# Altium schematic symbol library SCH - POWER - LINEAR VREG - TI TPS77327_DGK_8.SchLib: 1 symbol
Pins are listed as number, name and electrical type; pins without a type are passive.

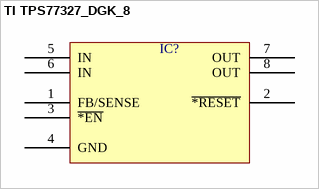
[diagram p0: symbol TI TPS77327_DGK_8]

## TI TPS77327_DGK_8
designator IC?  (value not drawn)
pins: 1 FB/SENSE, 2 ~{*RESET}, 3 ~{*EN}, 4 GND, 5 IN, 6 IN, 7 OUT, 8 OUT